# EAGLE library part MAX14752 (library KylePile)
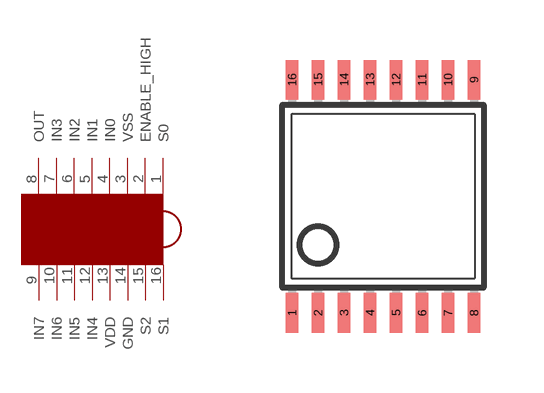
[diagram p0: symbol with the pads of MAX14752; footprint MAX14752]

Designator prefix -

## MAX14752  [MAX14752]
1  S0
2  ENABLE_HIGH
3  VSS
4  IN0
5  IN1
6  IN2
7  IN3
8  OUT
9  IN7
10  IN6
11  IN5
12  IN4
13  VDD
14  GND
15  S2
16  S1

## Footprint MAX14752 (pad centres in mm)
16-TSSOP package
smd 0.305 x 0.991: 1 -2.275,-2.918; 2 -1.625,-2.918; 3 -0.975,-2.918; 4 -0.325,-2.918; 5 0.325,-2.918; 6 0.975,-2.918; 7 1.625,-2.918; 8 2.275,-2.918; 9 2.275,2.918; 10 1.625,2.918; 11 0.975,2.918; 12 0.325,2.918; 13 -0.325,2.918; 14 -0.975,2.918; 15 -1.625,2.918; 16 -2.275,2.918